# EAGLE library part MC14070BDG (library ON Semiconductor_By_element14_Batch_1)
CMOS SSI
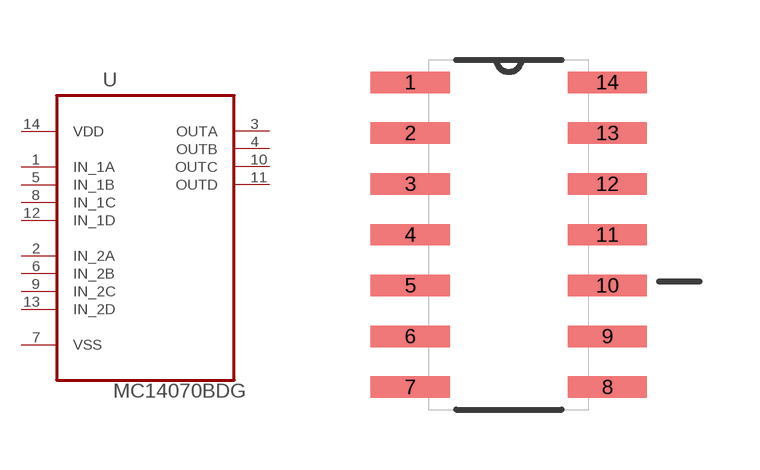
[diagram p257: symbol with the pads of SOIC127P600X175-14N; footprint SOIC127P600X175-14N]

Designator prefix U

## MC14070BDG (MPN: MC14070BDG; OC_FARNELL: 9666460; OC_NEWARK: 71J5474; P1I: o; PACKAGE: SOIC-14; SUPPLIER: ON SEMICONDUCTOR)  [SOIC127P600X175-14N]
1  IN_1A  in
2  IN_2A  in
3  OUTA  out
4  OUTB  out
5  IN_1B  in
6  IN_2B  in
7  VSS  pas
8  IN_1C  in
9  IN_2C  in
10  OUTC  out
11  OUTD  out
12  IN_1D  in
13  IN_2D  in
14  VDD  pwr

## Footprint SOIC127P600X175-14N (pad centres in mm)
smd 1.981 x 0.533: 1 -2.464,3.81; 2 -2.464,2.54; 3 -2.464,1.27; 4 -2.464,0; 5 -2.464,-1.27; 6 -2.464,-2.54; 7 -2.464,-3.81; 8 2.464,-3.81; 9 2.464,-2.54; 10 2.464,-1.27; 11 2.464,0; 12 2.464,1.27; 13 2.464,2.54; 14 2.464,3.81